# Altium schematic symbol library SN74CB3T1G125DCK.SchLib: 2 symbols
Pins are listed as number, name and electrical type; pins without a type are passive.

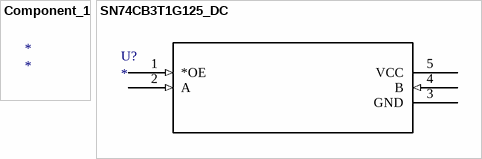
[diagram p0: symbols Component_1 to SN74CB3T1G125_DC]

## Component_1
designator *

## SN74CB3T1G125_DC
designator U?
Imported; Manufacturer: Texas Instruments; GENERIC_PART_NUMBER: SN74CB3T1G125; Manufacturer_Part_Number: sn74cb3t1g125_dck_5; INDUSTRY_STD_PKG_TYPE: SC70; FAMILY_NAME: TRANSLATING BUS SWITCH; PIN_COUNT: 5; PACKAGE_DESIGNATOR: DCK; Datasheet URL: http://www.ti.com/lit/gpn/SN74CB3T1G125; Vendor: Texas Instruments; RefDes: RefDes; Type: DEV; Value: Value
footprint DCK5
pins: 1 *OE (in), 2 A (in), 3 GND (power), 4 B (in), 5 VCC (power)